# EAGLE library part ATTINY25* (library SWI_COMMONS)
ATMEL ATtiny 25 Packages: P = PDIP 08 30mil S = SOIC 08 EIAJ 208mil SS = SOIC 08 JEDEC 150mil Technologies Note: for complete ordering code (temp. range, finish, tape&reel etc.) see www.atmel.com • Supply Voltage: V = (1.8…5.5)V | [blank] = (2.7…5.5)V • Speed: 10 = 10 MHz | 20 = 20 MHz Author: Dipl.-Ing. FH Rainer Bayer HHN Hochschule Heilbronn (Heilbronn University), rainer.bayer@hs-heilbronn.de Ingenieurbüro ing-rb, mail@ing-rb.de
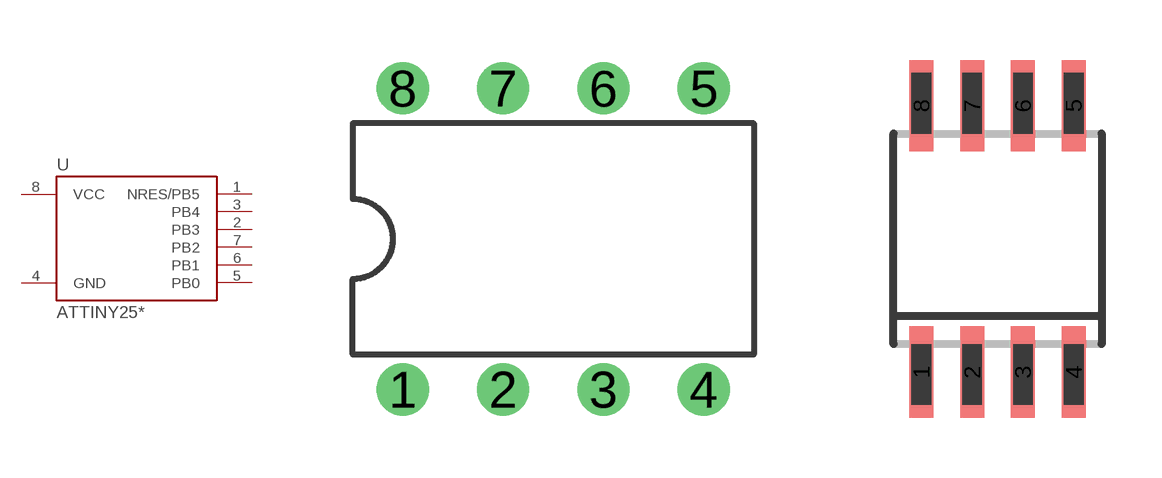
[diagram p13: symbol with the pads of PDIP08_300MIL; footprints PDIP08_300MIL, SOIC8_EIAJ_208MIL]

Designator prefix U

## ATTINY25-P, ATTINY25-20P, ATTINY25V-10P  [PDIP08_300MIL]
1  NRES/PB5
2  PB3
3  PB4
4  GND  pwr
5  PB0
6  PB1
7  PB2
8  VCC  pwr

## ATTINY25-S, ATTINY25-20S, ATTINY25V-10S  [SOIC8_EIAJ_208MIL]
Pads as for PDIP08_300MIL

## ATTINY25-SS, ATTINY25-20SS, ATTINY25V-10SS  [SOIC08_JEDEC_150MIL]
Pads as for PDIP08_300MIL

## Footprint PDIP08_300MIL (pad centres in mm)
DIL08 300mil
drill 0.813: 1 -3.81,-3.81; 2 -1.27,-3.81; 3 1.27,-3.81; 4 3.81,-3.81; 5 3.81,3.81; 6 1.27,3.81; 7 -1.27,3.81; 8 -3.81,3.81

## Footprint SOIC8_EIAJ_208MIL (pad centres in mm)
Small Outline Medium Plastic Gull Wing 208-mil body
smd 0.6 x 2.286: 1 -1.905,-3.33; 2 -0.635,-3.33; 3 0.635,-3.33; 4 1.905,-3.33; 5 1.905,3.33; 6 0.635,3.33; 7 -0.635,3.33; 8 -1.905,3.33

## Footprint SOIC08_JEDEC_150MIL (pad centres in mm)
Small Outline Narrow Plastic Gull Wing 150-mil body
smd 0.6 x 2.2: 1 -1.905,-2.6; 2 -0.635,-2.6; 3 0.635,-2.6; 4 1.905,-2.6; 5 1.905,2.6; 6 0.635,2.6; 7 -0.635,2.6; 8 -1.905,2.6